# EAGLE library part TS5A3357 (library NewSDR)
Texas Instruments Single 5-Ohm SP3T Analog Switch
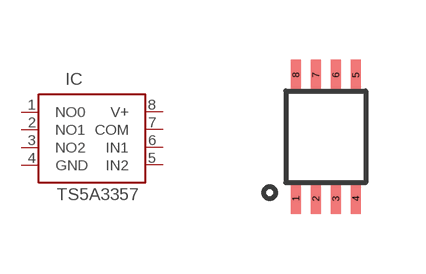
[diagram p219: symbol with the pads of SC70-8; footprint SC70-8]

Designator prefix IC

## TS5A3357  [SC70-8]
1  NO0
2  NO1
3  NO2
4  GND  pwr
5  IN2  in
6  IN1  in
7  COM
8  V+  pwr

## Footprint SC70-8 (pad centres in mm)
8-PIN PLASTIC SMALL OUTLINE PACKAGE
smd 0.25 x 0.75: 1 -0.75,-1.55; 2 -0.25,-1.55; 3 0.25,-1.55; 4 0.75,-1.55; 5 0.75,1.55; 6 0.25,1.55; 7 -0.25,1.55; 8 -0.75,1.55